# Altium schematic symbol library AX_MX-TTL-CONNECTOR.SchLib: 1 symbol
Pins are listed as number, name and electrical type; pins without a type are passive.

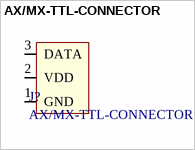
[diagram p0: symbol AX/MX-TTL-CONNECTOR]

## AX/MX-TTL-CONNECTOR
designator J?
Dynamixel AX/MX-Series servo connector 3 pin TTL version; Manufaturer: MOLEX; MPN: 22-03-5035; Pinout: http://support.robotis.com/en/product/dynamixel/dxl_connector.htm; Farnell: 9979620
footprint MOLEX_22-03-5035 (2.50mm Pitch, Wire-to-Board Header, Vertical, Shrouded, 3 Circuits, Tin (Sn) Plating)
pins: 1 GND, 2 VDD, 3 DATA